# EAGLE library part SCHA5B0200 (library AllAboutEE)
microSD card socket (push-push)
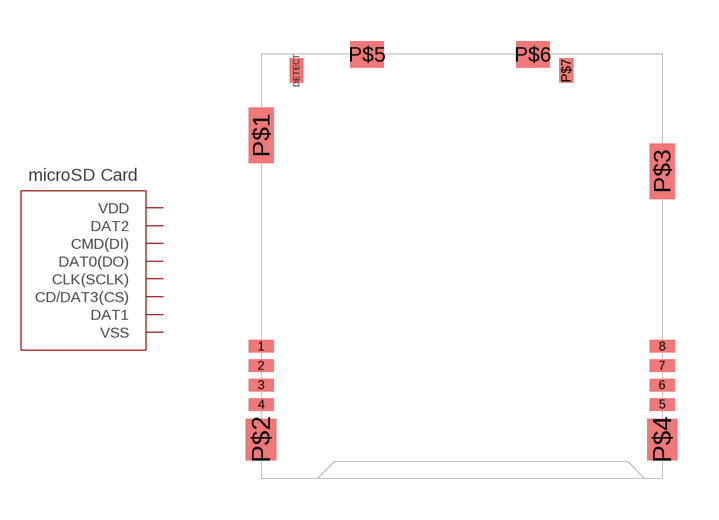
[diagram p7: symbol with the pads of SCHA5B0200; footprint SCHA5B0200]

Designator prefix -

## SCHA5B0200  [SCHA5B0200]
1  DAT2
2  CD/DAT3(CS)
3  CMD(DI)
4  VDD
5  CLK(SCLK)
6  VSS
7  DAT0(DO)
8  DAT1

## Footprint SCHA5B0200 (pad centres in mm)
microSD card socket (push-push)
smd 0.9 x 0.45: 1 -7.62,-3.885; 2 -7.62,-4.585; 3 -7.62,-5.285; 4 -7.62,-5.985; 5 6.88,-5.985; 6 6.88,-5.285; 7 6.88,-4.585; 8 6.88,-3.885
smd 0.5 x 0.9: DETECT -6.345,6.1; P$7 3.405,6.1
smd 0.9 x 2: P$1 -7.62,3.75; P$3 6.88,2.45
smd 1.1 x 1.5: P$2 -7.62,-7.25; P$4 6.88,-7.25
smd 1.2 x 0.95: P$5 -3.795,6.675; P$6 2.205,6.675